# Altium schematic symbol library TPS560430XDBV.SchLib: 1 symbol
Pins are listed as number, name and electrical type; pins without a type are passive.

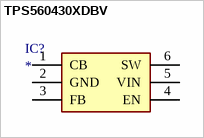
[diagram p0: symbol TPS560430XDBV]

## TPS560430XDBV
designator IC?
Datasheet: https://www.ti.com/lit/ds/symlink/tps560430.pdf?HQS=dis-mous-null-mousermode-dsf-pf-null-wwe&DCM=yes&ref_url=https%3A%2F%2Fwww.mouser.bg%2F&distId=26; Package: SOT-23
footprint TPS560430XDBV
pins: 1 CB, 2 GND, 3 FB, 4 EN, 5 VIN, 6 SW